# Altium schematic symbol library SCH - CONNECTORS - JST BM06B-SURS-TF.Schlib: 1 symbol
Pins are listed as number, name and electrical type; pins without a type are passive.

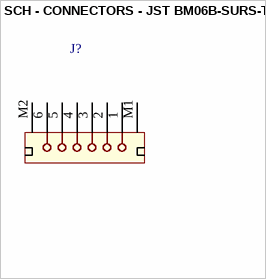
[diagram p0: symbol SCH - CONNECTORS - JST BM06B-SURS-TF]

## SCH - CONNECTORS - JST BM06B-SURS-TF
designator J?
footprint BM06B-SURS-TF
pins: 1, 2, 3, 4, 5, 6, M1, M2